# EAGLE library part XC3S1500-FG320 (library xess)
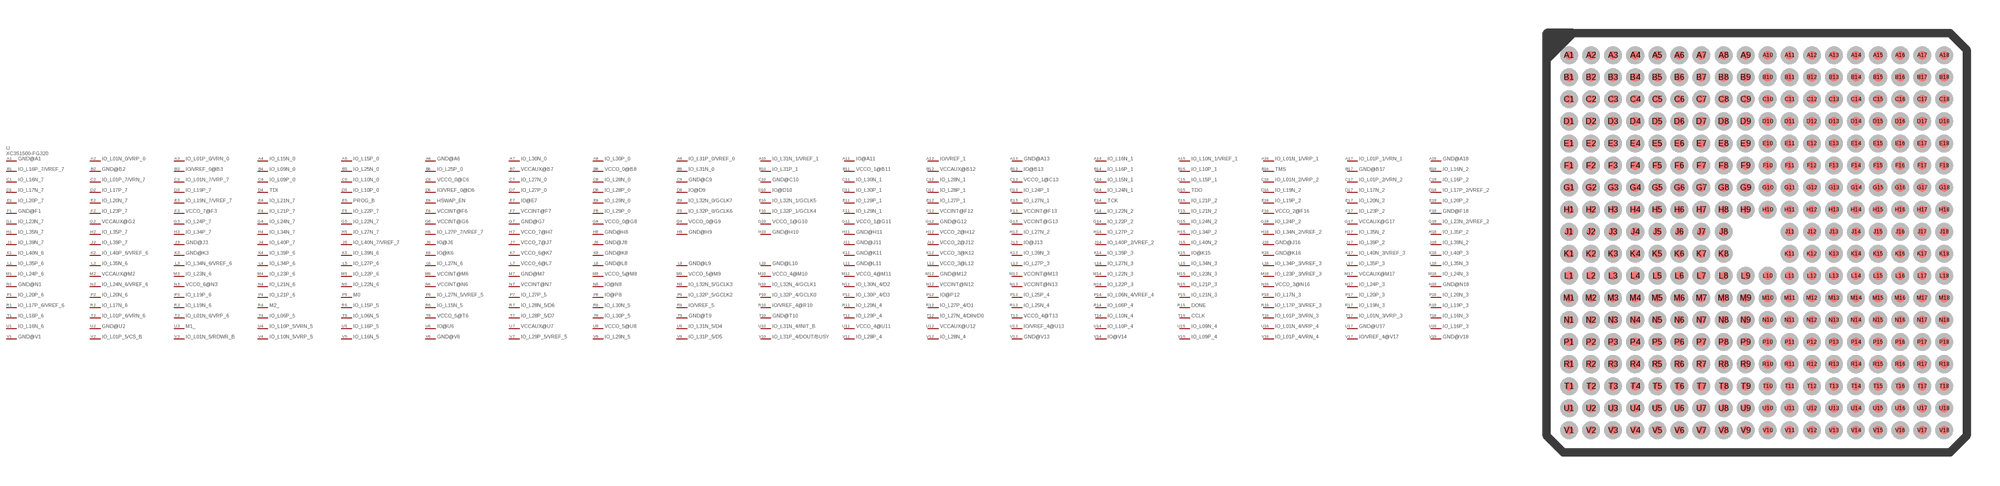
[diagram p100: symbol with the pads of XC3S1500-FG320; footprint XC3S1500-FG320]

Designator prefix U; gates PART_VALUE=PART_VALUE-XC3S1500-FG320 GND@A1=P-XC3S1500-FG320 IO_L01N_0/VRP_0=P-XC3S1500-FG320 IO_L01P_0/VRN_0=P-XC3S1500-FG320 IO_L15N_0=P-XC3S1500-FG320 IO_L15P_0=P-XC3S1500-FG320 GND@A6=P-XC3S1500-FG320 IO_L30N_0=P-XC3S1500-FG320 IO_L30P_0=P-XC3S1500-FG320 IO_L31P_0/VREF_0=P-XC3S1500-FG320 IO_L31N_1/VREF_1=P-XC3S1500-FG320 IO@A11=P-XC3S1500-FG320 IO/VREF_1=P-XC3S1500-FG320 GND@A13=P-XC3S1500-FG320 IO_L16N_1=P-XC3S1500-FG320 IO_L10N_1/VREF_1=P-XC3S1500-FG320 IO_L01N_1/VRP_1=P-XC3S1500-FG320 IO_L01P_1/VRN_1=P-XC3S1500-FG320 GND@A18=P-XC3S1500-FG320 IO_L16P_7/VREF_7=P-XC3S1500-FG320 GND@B2=P-XC3S1500-FG320 IO/VREF_0@B3=P-XC3S1500-FG320 IO_L09N_0=P-XC3S1500-FG320 IO_L25N_0=P-XC3S1500-FG320 IO_L25P_0=P-XC3S1500-FG320 VCCAUX@B7=P-XC3S1500-FG320 VCCO_0@B8=P-XC3S1500-FG320 IO_L31N_0=P-XC3S1500-FG320 IO_L31P_1=P-XC3S1500-FG320 VCCO_1@B11=P-XC3S1500-FG320 VCCAUX@B12=P-XC3S1500-FG320 IO@B13=P-XC3S1500-FG320 IO_L16P_1=P-XC3S1500-FG320 IO_L10P_1=P-XC3S1500-FG320 TMS=P-XC3S1500-FG320 GND@B17=P-XC3S1500-FG320 IO_L16N_2=P-XC3S1500-FG320 IO_L16N_7=P-XC3S1500-FG320 IO_L01P_7/VRN_7=P-XC3S1500-FG320 IO_L01N_7/VRP_7=P-XC3S1500-FG320 IO_L09P_0=P-XC3S1500-FG320 IO_L10N_0=P-XC3S1500-FG320 VCCO_0@C6=P-XC3S1500-FG320 IO_L27N_0=P-XC3S1500-FG320 IO_L28N_0=P-XC3S1500-FG320 GND@C9=P-XC3S1500-FG320 GND@C10=P-XC3S1500-FG320 IO_L30N_1=P-XC3S1500-FG320 IO_L28N_1=P-XC3S1500-FG320 VCCO_1@C13=P-XC3S1500-FG320 IO_L15N_1=P-XC3S1500-FG320 IO_L15P_1=P-XC3S1500-FG320 IO_L01N_2/VRP_2=P-XC3S1500-FG320 IO_L01P_2/VRN_2=P-XC3S1500-FG320 IO_L16P_2=P-XC3S1500-FG320 IO_L17N_7=P-XC3S1500-FG320 IO_L17P_7=P-XC3S1500-FG320 IO_L19P_7=P-XC3S1500-FG320 TDI=P-XC3S1500-FG320 IO_L10P_0=P-XC3S1500-FG320 IO/VREF_0@D6=P-XC3S1500-FG320 IO_L27P_0=P-XC3S1500-FG320 IO_L28P_0=P-XC3S1500-FG320 IO@D9=P-XC3S1500-FG320 IO@D10=P-XC3S1500-FG320 IO_L30P_1=P-XC3S1500-FG320 IO_L28P_1=P-XC3S1500-FG320 IO_L24P_1=P-XC3S1500-FG320 IO_L24N_1=P-XC3S1500-FG320 TDO=P-XC3S1500-FG320 IO_L19N_2=P-XC3S1500-FG320 IO_L17N_2=P-XC3S1500-FG320 IO_L17P_2/VREF_2=P-XC3S1500-FG320 IO_L20P_7=P-XC3S1500-FG320 IO_L20N_7=P-XC3S1500-FG320 IO_L19N_7/VREF_7=P-XC3S1500-FG320 IO_L21N_7=P-XC3S1500-FG320 PROG_B=P-XC3S1500-FG320 HSWAP_EN=P-XC3S1500-FG320 IO@E7=P-XC3S1500-FG320 IO_L29N_0=P-XC3S1500-FG320 IO_L32N_0/GCLK7=P-XC3S1500-FG320 IO_L32N_1/GCLK5=P-XC3S1500-FG320 IO_L29P_1=P-XC3S1500-FG320 IO_L27P_1=P-XC3S1500-FG320 IO_L27N_1=P-XC3S1500-FG320 TCK=P-XC3S1500-FG320 IO_L21P_2=P-XC3S1500-FG320 IO_L19P_2=P-XC3S1500-FG320 IO_L20N_2=P-XC3S1500-FG320 IO_L20P_2=P-XC3S1500-FG320 GND@F1=P-XC3S1500-FG320 IO_L23P_7=P-XC3S1500-FG320 VCCO_7@F3=P-XC3S1500-FG320 IO_L21P_7=P-XC3S1500-FG320 IO_L22P_7=P-XC3S1500-FG320 VCCINT@F6=P-XC3S1500-FG320 VCCINT@F7=P-XC3S1500-FG320 IO_L29P_0=P-XC3S1500-FG320 IO_L32P_0/GCLK6=P-XC3S1500-FG320 IO_L32P_1/GCLK4=P-XC3S1500-FG320 IO_L29N_1=P-XC3S1500-FG320 VCCINT@F12=P-XC3S1500-FG320 VCCINT@F13=P-XC3S1500-FG320 IO_L22N_2=P-XC3S1500-FG320 IO_L21N_2=P-XC3S1500-FG320 VCCO_2@F16=P-XC3S1500-FG320 IO_L23P_2=P-XC3S1500-FG320 GND@F18=P-XC3S1500-FG320 IO_L23N_7=P-XC3S1500-FG320 VCCAUX@G2=P-XC3S1500-FG320 IO_L24P_7=P-XC3S1500-FG320 IO_L24N_7=P-XC3S1500-FG320 IO_L22N_7=P-XC3S1500-FG320 VCCINT@G6=P-XC3S1500-FG320 GND@G7=P-XC3S1500-FG320 VCCO_0@G8=P-XC3S1500-FG320 VCCO_0@G9=P-XC3S1500-FG320 VCCO_1@G10=P-XC3S1500-FG320 VCCO_1@G11=P-XC3S1500-FG320 GND@G12=P-XC3S1500-FG320 VCCINT@G13=P-XC3S1500-FG320 IO_L22P_2=P-XC3S1500-FG320 IO_L24N_2=P-XC3S1500-FG320 IO_L24P_2=P-XC3S1500-FG320 VCCAUX@G17=P-XC3S1500-FG320 IO_L23N_2/VREF_2=P-XC3S1500-FG320 IO_L35N_7=P-XC3S1500-FG320 IO_L35P_7=P-XC3S1500-FG320 IO_L34P_7=P-XC3S1500-FG320 IO_L34N_7=P-XC3S1500-FG320 IO_L27N_7=P-XC3S1500-FG320 IO_L27P_7/VREF_7=P-XC3S1500-FG320 VCCO_7@H7=P-XC3S1500-FG320 GND@H8=P-XC3S1500-FG320 GND@H9=P-XC3S1500-FG320 GND@H10=P-XC3S1500-FG320 GND@H11=P-XC3S1500-FG320 VCCO_2@H12=P-XC3S1500-FG320 IO_L27N_2=P-XC3S1500-FG320 IO_L27P_2=P-XC3S1500-FG320 IO_L34P_2=P-XC3S1500-FG320 IO_L34N_2/VREF_2=P-XC3S1500-FG320 IO_L35N_2=P-XC3S1500-FG320 IO_L35P_2=P-XC3S1500-FG320 IO_L39N_7=P-XC3S1500-FG320 IO_L39P_7=P-XC3S1500-FG320 GND@J3=P-XC3S1500-FG320 IO_L40P_7=P-XC3S1500-FG320 IO_L40N_7/VREF_7=P-XC3S1500-FG320 IO@J6=P-XC3S1500-FG320 VCCO_7@J7=P-XC3S1500-FG320 GND@J8=P-XC3S1500-FG320 GND@J11=P-XC3S1500-FG320 VCCO_2@J12=P-XC3S1500-FG320 IO@J13=P-XC3S1500-FG320 IO_L40P_2/VREF_2=P-XC3S1500-FG320 IO_L40N_2=P-XC3S1500-FG320 GND@J16=P-XC3S1500-FG320 IO_L39P_2=P-XC3S1500-FG320 IO_L39N_2=P-XC3S1500-FG320 IO_L40N_6=P-XC3S1500-FG320 IO_L40P_6/VREF_6=P-XC3S1500-FG320 GND@K3=P-XC3S1500-FG320 IO_L39P_6=P-XC3S1500-FG320 IO_L39N_6=P-XC3S1500-FG320 IO@K6=P-XC3S1500-FG320 VCCO_6@K7=P-XC3S1500-FG320 GND@K8=P-XC3S1500-FG320 GND@K11=P-XC3S1500-FG320 VCCO_3@K12=P-XC3S1500-FG320 IO_L39N_3=P-XC3S1500-FG320 IO_L39P_3=P-XC3S1500-FG320 IO@K15=P-XC3S1500-FG320 GND@K16=P-XC3S1500-FG320 IO_L40N_3/VREF_3=P-XC3S1500-FG320 IO_L40P_3=P-XC3S1500-FG320 IO_L35P_6=P-XC3S1500-FG320 IO_L35N_6=P-XC3S1500-FG320 IO_L34N_6/VREF_6=P-XC3S1500-FG320 IO_L34P_6=P-XC3S1500-FG320 IO_L27P_6=P-XC3S1500-FG320 IO_L27N_6=P-XC3S1500-FG320 VCCO_6@L7=P-XC3S1500-FG320 GND@L8=P-XC3S1500-FG320 GND@L9=P-XC3S1500-FG320 GND@L10=P-XC3S1500-FG320 GND@L11=P-XC3S1500-FG320 VCCO_3@L12=P-XC3S1500-FG320 IO_L27P_3=P-XC3S1500-FG320 IO_L27N_3=P-XC3S1500-FG320 IO_L34N_3=P-XC3S1500-FG320 IO_L34P_3/VREF_3=P-XC3S1500-FG320 IO_L35P_3=P-XC3S1500-FG320 IO_L35N_3=P-XC3S1500-FG320 IO_L24P_6=P-XC3S1500-FG320 VCCAUX@M2=P-XC3S1500-FG320 IO_L23N_6=P-XC3S1500-FG320 IO_L23P_6=P-XC3S1500-FG320 IO_L22P_6=P-XC3S1500-FG320 VCCINT@M6=P-XC3S1500-FG320 GND@M7=P-XC3S1500-FG320 VCCO_5@M8=P-XC3S1500-FG320 VCCO_5@M9=P-XC3S1500-FG320 VCCO_4@M10=P-XC3S1500-FG320 VCCO_4@M11=P-XC3S1500-FG320 GND@M12=P-XC3S1500-FG320 VCCINT@M13=P-XC3S1500-FG320 IO_L22N_3=P-XC3S1500-FG320 IO_L23N_3=P-XC3S1500-FG320 IO_L23P_3/VREF_3=P-XC3S1500-FG320 VCCAUX@M17=P-XC3S1500-FG320 IO_L24N_3=P-XC3S1500-FG320 GND@N1=P-XC3S1500-FG320 IO_L24N_6/VREF_6=P-XC3S1500-FG320 VCCO_6@N3=P-XC3S1500-FG320 IO_L21N_6=P-XC3S1500-FG320 IO_L22N_6=P-XC3S1500-FG320 VCCINT@N6=P-XC3S1500-FG320 VCCINT@N7=P-XC3S1500-FG320 IO@N8=P-XC3S1500-FG320 IO_L32N_5/GCLK3=P-XC3S1500-FG320 IO_L32N_4/GCLK1=P-XC3S1500-FG320 IO_L30N_4/D2=P-XC3S1500-FG320 VCCINT@N12=P-XC3S1500-FG320 VCCINT@N13=P-XC3S1500-FG320 IO_L22P_3=P-XC3S1500-FG320 IO_L21P_3=P-XC3S1500-FG320 VCCO_3@N16=P-XC3S1500-FG320 IO_L24P_3=P-XC3S1500-FG320 GND@N18=P-XC3S1500-FG320 IO_L20P_6=P-XC3S1500-FG320 IO_L20N_6=P-XC3S1500-FG320 IO_L19P_6=P-XC3S1500-FG320 IO_L21P_6=P-XC3S1500-FG320 M0=P-XC3S1500-FG320 IO_L27N_5/VREF_5=P-XC3S1500-FG320 IO_L27P_5=P-XC3S1500-FG320 IO@P8=P-XC3S1500-FG320 IO_L32P_5/GCLK2=P-XC3S1500-FG320 IO_L32P_4/GCLK0=P-XC3S1500-FG320 IO_L30P_4/D3=P-XC3S1500-FG320 IO@P12=P-XC3S1500-FG320 IO_L25P_4=P-XC3S1500-FG320 IO_L06N_4/VREF_4=P-XC3S1500-FG320 IO_L21N_3=P-XC3S1500-FG320 IO_L17N_3=P-XC3S1500-FG320 IO_L20P_3=P-XC3S1500-FG320 IO_L20N_3=P-XC3S1500-FG320 IO_L17P_6/VREF_6=P-XC3S1500-FG320 IO_L17N_6=P-XC3S1500-FG320 IO_L19N_6=P-XC3S1500-FG320 M2_=P-XC3S1500-FG320 IO_L15P_5=P-XC3S1500-FG320 IO_L15N_5=P-XC3S1500-FG320 IO_L28N_5/D6=P-XC3S1500-FG320 IO_L30N_5=P-XC3S1500-FG320 IO/VREF_5=P-XC3S1500-FG320 IO/VREF_4@R10=P-XC3S1500-FG320 IO_L29N_4=P-XC3S1500-FG320 IO_L27P_4/D1=P-XC3S1500-FG320 IO_L25N_4=P-XC3S1500-FG320 IO_L06P_4=P-XC3S1500-FG320 DONE=P-XC3S1500-FG320 IO_L17P_3/VREF_3=P-XC3S1500-FG320 IO_L19N_3=P-XC3S1500-FG320 IO_L19P_3=P-XC3S1500-FG320 IO_L16P_6=P-XC3S1500-FG320 IO_L01P_6/VRN_6=P-XC3S1500-FG320 IO_L01N_6/VRP_6=P-XC3S1500-FG320 IO_L06P_5=P-XC3S1500-FG320 IO_L06N_5=P-XC3S1500-FG320 VCCO_5@T6=P-XC3S1500-FG320 IO_L28P_5/D7=P-XC3S1500-FG320 IO_L30P_5=P-XC3S1500-FG320 GND@T9=P-XC3S1500-FG320 GND@T10=P-XC3S1500-FG320 IO_L29P_4=P-XC3S1500-FG320 IO_L27N_4/DIN/D0=P-XC3S1500-FG320 VCCO_4@T13=P-XC3S1500-FG320 IO_L10N_4=P-XC3S1500-FG320 CCLK=P-XC3S1500-FG320 IO_L01P_3/VRN_3=P-XC3S1500-FG320 IO_L01N_3/VRP_3=P-XC3S1500-FG320 IO_L16N_3=P-XC3S1500-FG320 IO_L16N_6=P-XC3S1500-FG320 GND@U2=P-XC3S1500-FG320 M1_=P-XC3S1500-FG320 IO_L10P_5/VRN_5=P-XC3S1500-FG320 IO_L16P_5=P-XC3S1500-FG320 IO@U6=P-XC3S1500-FG320 VCCAUX@U7=P-XC3S1500-FG320 VCCO_5@U8=P-XC3S1500-FG320 IO_L31N_5/D4=P-XC3S1500-FG320 IO_L31N_4/INIT_B=P-XC3S1500-FG320 VCCO_4@U11=P-XC3S1500-FG320 VCCAUX@U12=P-XC3S1500-FG320 IO/VREF_4@U13=P-XC3S1500-FG320 IO_L10P_4=P-XC3S1500-FG320 IO_L09N_4=P-XC3S1500-FG320 IO_L01N_4/VRP_4=P-XC3S1500-FG320 GND@U17=P-XC3S1500-FG320 IO_L16P_3=P-XC3S1500-FG320 GND@V1=P-XC3S1500-FG320 IO_L01P_5/CS_B=P-XC3S1500-FG320 IO_L01N_5/RDWR_B=P-XC3S1500-FG320 IO_L10N_5/VRP_5=P-XC3S1500-FG320 IO_L16N_5=P-XC3S1500-FG320 GND@V6=P-XC3S1500-FG320 IO_L29P_5/VREF_5=P-XC3S1500-FG320 IO_L29N_5=P-XC3S1500-FG320 IO_L31P_5/D5=P-XC3S1500-FG320 IO_L31P_4/DOUT/BUSY=P-XC3S1500-FG320 IO_L28P_4=P-XC3S1500-FG320 IO_L28N_4=P-XC3S1500-FG320 GND@V13=P-XC3S1500-FG320 IO@V14=P-XC3S1500-FG320 IO_L09P_4=P-XC3S1500-FG320 IO_L01P_4/VRN_4=P-XC3S1500-FG320 IO/VREF_4@V17=P-XC3S1500-FG320 GND@V18=P-XC3S1500-FG320

## XC3S1500-FG320  [XC3S1500-FG320]
A1  GND@A1:P$1
A2  IO_L01N_0/VRP_0:P$1
A3  IO_L01P_0/VRN_0:P$1
A4  IO_L15N_0:P$1
A5  IO_L15P_0:P$1
A6  GND@A6:P$1
A7  IO_L30N_0:P$1
A8  IO_L30P_0:P$1
A9  IO_L31P_0/VREF_0:P$1
A10  IO_L31N_1/VREF_1:P$1
A11  IO@A11:P$1
A12  IO/VREF_1:P$1
A13  GND@A13:P$1
A14  IO_L16N_1:P$1
A15  IO_L10N_1/VREF_1:P$1
A16  IO_L01N_1/VRP_1:P$1
A17  IO_L01P_1/VRN_1:P$1
A18  GND@A18:P$1
B1  IO_L16P_7/VREF_7:P$1
B2  GND@B2:P$1
B3  IO/VREF_0@B3:P$1
B4  IO_L09N_0:P$1
B5  IO_L25N_0:P$1
B6  IO_L25P_0:P$1
B7  VCCAUX@B7:P$1
B8  VCCO_0@B8:P$1
B9  IO_L31N_0:P$1
B10  IO_L31P_1:P$1
B11  VCCO_1@B11:P$1
B12  VCCAUX@B12:P$1
B13  IO@B13:P$1
B14  IO_L16P_1:P$1
B15  IO_L10P_1:P$1
B16  TMS:P$1
B17  GND@B17:P$1
B18  IO_L16N_2:P$1
C1  IO_L16N_7:P$1
C2  IO_L01P_7/VRN_7:P$1
C3  IO_L01N_7/VRP_7:P$1
C4  IO_L09P_0:P$1
C5  IO_L10N_0:P$1
C6  VCCO_0@C6:P$1
C7  IO_L27N_0:P$1
C8  IO_L28N_0:P$1
C9  GND@C9:P$1
C10  GND@C10:P$1
C11  IO_L30N_1:P$1
C12  IO_L28N_1:P$1
C13  VCCO_1@C13:P$1
C14  IO_L15N_1:P$1
C15  IO_L15P_1:P$1
C16  IO_L01N_2/VRP_2:P$1
C17  IO_L01P_2/VRN_2:P$1
C18  IO_L16P_2:P$1
D1  IO_L17N_7:P$1
D2  IO_L17P_7:P$1
D3  IO_L19P_7:P$1
D4  TDI:P$1
D5  IO_L10P_0:P$1
D6  IO/VREF_0@D6:P$1
D7  IO_L27P_0:P$1
D8  IO_L28P_0:P$1
D9  IO@D9:P$1
D10  IO@D10:P$1
D11  IO_L30P_1:P$1
D12  IO_L28P_1:P$1
D13  IO_L24P_1:P$1
D14  IO_L24N_1:P$1
D15  TDO:P$1
D16  IO_L19N_2:P$1
D17  IO_L17N_2:P$1
D18  IO_L17P_2/VREF_2:P$1
E1  IO_L20P_7:P$1
E2  IO_L20N_7:P$1
E3  IO_L19N_7/VREF_7:P$1
E4  IO_L21N_7:P$1
E5  PROG_B:P$1
E6  HSWAP_EN:P$1
E7  IO@E7:P$1
E8  IO_L29N_0:P$1
E9  IO_L32N_0/GCLK7:P$1
E10  IO_L32N_1/GCLK5:P$1
E11  IO_L29P_1:P$1
E12  IO_L27P_1:P$1
E13  IO_L27N_1:P$1
E14  TCK:P$1
E15  IO_L21P_2:P$1
E16  IO_L19P_2:P$1
E17  IO_L20N_2:P$1
E18  IO_L20P_2:P$1
F1  GND@F1:P$1
F2  IO_L23P_7:P$1
F3  VCCO_7@F3:P$1
F4  IO_L21P_7:P$1
F5  IO_L22P_7:P$1
F6  VCCINT@F6:P$1
F7  VCCINT@F7:P$1
F8  IO_L29P_0:P$1
F9  IO_L32P_0/GCLK6:P$1
F10  IO_L32P_1/GCLK4:P$1
F11  IO_L29N_1:P$1
F12  VCCINT@F12:P$1
F13  VCCINT@F13:P$1
F14  IO_L22N_2:P$1
F15  IO_L21N_2:P$1
F16  VCCO_2@F16:P$1
F17  IO_L23P_2:P$1
F18  GND@F18:P$1
G1  IO_L23N_7:P$1
G2  VCCAUX@G2:P$1
G3  IO_L24P_7:P$1
G4  IO_L24N_7:P$1
G5  IO_L22N_7:P$1
G6  VCCINT@G6:P$1
G7  GND@G7:P$1
G8  VCCO_0@G8:P$1
G9  VCCO_0@G9:P$1
G10  VCCO_1@G10:P$1
G11  VCCO_1@G11:P$1
G12  GND@G12:P$1
G13  VCCINT@G13:P$1
G14  IO_L22P_2:P$1
G15  IO_L24N_2:P$1
G16  IO_L24P_2:P$1
G17  VCCAUX@G17:P$1
G18  IO_L23N_2/VREF_2:P$1
H1  IO_L35N_7:P$1
H2  IO_L35P_7:P$1
H3  IO_L34P_7:P$1
H4  IO_L34N_7:P$1
H5  IO_L27N_7:P$1
H6  IO_L27P_7/VREF_7:P$1
H7  VCCO_7@H7:P$1
H8  GND@H8:P$1
H9  GND@H9:P$1
H10  GND@H10:P$1
H11  GND@H11:P$1
H12  VCCO_2@H12:P$1
H13  IO_L27N_2:P$1
H14  IO_L27P_2:P$1
H15  IO_L34P_2:P$1
H16  IO_L34N_2/VREF_2:P$1
H17  IO_L35N_2:P$1
H18  IO_L35P_2:P$1
J1  IO_L39N_7:P$1
J2  IO_L39P_7:P$1
J3  GND@J3:P$1
J4  IO_L40P_7:P$1
J5  IO_L40N_7/VREF_7:P$1
J6  IO@J6:P$1
J7  VCCO_7@J7:P$1
J8  GND@J8:P$1
J11  GND@J11:P$1
J12  VCCO_2@J12:P$1
J13  IO@J13:P$1
J14  IO_L40P_2/VREF_2:P$1
J15  IO_L40N_2:P$1
J16  GND@J16:P$1
J17  IO_L39P_2:P$1
J18  IO_L39N_2:P$1
K1  IO_L40N_6:P$1
K2  IO_L40P_6/VREF_6:P$1
K3  GND@K3:P$1
K4  IO_L39P_6:P$1
K5  IO_L39N_6:P$1
K6  IO@K6:P$1
K7  VCCO_6@K7:P$1
K8  GND@K8:P$1
K11  GND@K11:P$1
K12  VCCO_3@K12:P$1
K13  IO_L39N_3:P$1
K14  IO_L39P_3:P$1
K15  IO@K15:P$1
K16  GND@K16:P$1
K17  IO_L40N_3/VREF_3:P$1
K18  IO_L40P_3:P$1
L1  IO_L35P_6:P$1
L2  IO_L35N_6:P$1
L3  IO_L34N_6/VREF_6:P$1
L4  IO_L34P_6:P$1
L5  IO_L27P_6:P$1
L6  IO_L27N_6:P$1
L7  VCCO_6@L7:P$1
L8  GND@L8:P$1
L9  GND@L9:P$1
L10  GND@L10:P$1
L11  GND@L11:P$1
L12  VCCO_3@L12:P$1
L13  IO_L27P_3:P$1
L14  IO_L27N_3:P$1
L15  IO_L34N_3:P$1
L16  IO_L34P_3/VREF_3:P$1
L17  IO_L35P_3:P$1
L18  IO_L35N_3:P$1
M1  IO_L24P_6:P$1
M2  VCCAUX@M2:P$1
M3  IO_L23N_6:P$1
M4  IO_L23P_6:P$1
M5  IO_L22P_6:P$1
M6  VCCINT@M6:P$1
M7  GND@M7:P$1
M8  VCCO_5@M8:P$1
M9  VCCO_5@M9:P$1
M10  VCCO_4@M10:P$1
M11  VCCO_4@M11:P$1
M12  GND@M12:P$1
M13  VCCINT@M13:P$1
M14  IO_L22N_3:P$1
M15  IO_L23N_3:P$1
M16  IO_L23P_3/VREF_3:P$1
M17  VCCAUX@M17:P$1
M18  IO_L24N_3:P$1
N1  GND@N1:P$1
N2  IO_L24N_6/VREF_6:P$1
N3  VCCO_6@N3:P$1
N4  IO_L21N_6:P$1
N5  IO_L22N_6:P$1
N6  VCCINT@N6:P$1
N7  VCCINT@N7:P$1
N8  IO@N8:P$1
N9  IO_L32N_5/GCLK3:P$1
N10  IO_L32N_4/GCLK1:P$1
N11  IO_L30N_4/D2:P$1
N12  VCCINT@N12:P$1
N13  VCCINT@N13:P$1
N14  IO_L22P_3:P$1
N15  IO_L21P_3:P$1
N16  VCCO_3@N16:P$1
N17  IO_L24P_3:P$1
N18  GND@N18:P$1
P1  IO_L20P_6:P$1
P2  IO_L20N_6:P$1
P3  IO_L19P_6:P$1
P4  IO_L21P_6:P$1
P5  M0:P$1
P6  IO_L27N_5/VREF_5:P$1
P7  IO_L27P_5:P$1
P8  IO@P8:P$1
P9  IO_L32P_5/GCLK2:P$1
P10  IO_L32P_4/GCLK0:P$1
P11  IO_L30P_4/D3:P$1
P12  IO@P12:P$1
P13  IO_L25P_4:P$1
P14  IO_L06N_4/VREF_4:P$1
P15  IO_L21N_3:P$1
P16  IO_L17N_3:P$1
P17  IO_L20P_3:P$1
P18  IO_L20N_3:P$1
R1  IO_L17P_6/VREF_6:P$1
R2  IO_L17N_6:P$1
R3  IO_L19N_6:P$1
R4  M2_:P$1
R5  IO_L15P_5:P$1
R6  IO_L15N_5:P$1
R7  IO_L28N_5/D6:P$1
R8  IO_L30N_5:P$1
R9  IO/VREF_5:P$1
R10  IO/VREF_4@R10:P$1
R11  IO_L29N_4:P$1
R12  IO_L27P_4/D1:P$1
R13  IO_L25N_4:P$1
R14  IO_L06P_4:P$1
R15  DONE:P$1
R16  IO_L17P_3/VREF_3:P$1
R17  IO_L19N_3:P$1
R18  IO_L19P_3:P$1
T1  IO_L16P_6:P$1
T2  IO_L01P_6/VRN_6:P$1
T3  IO_L01N_6/VRP_6:P$1
T4  IO_L06P_5:P$1
T5  IO_L06N_5:P$1
T6  VCCO_5@T6:P$1
T7  IO_L28P_5/D7:P$1
T8  IO_L30P_5:P$1
T9  GND@T9:P$1
T10  GND@T10:P$1
T11  IO_L29P_4:P$1
T12  IO_L27N_4/DIN/D0:P$1
T13  VCCO_4@T13:P$1
T14  IO_L10N_4:P$1
T15  CCLK:P$1
T16  IO_L01P_3/VRN_3:P$1
T17  IO_L01N_3/VRP_3:P$1
T18  IO_L16N_3:P$1
U1  IO_L16N_6:P$1
U2  GND@U2:P$1
U3  M1_:P$1
U4  IO_L10P_5/VRN_5:P$1
U5  IO_L16P_5:P$1
U6  IO@U6:P$1
U7  VCCAUX@U7:P$1
U8  VCCO_5@U8:P$1
U9  IO_L31N_5/D4:P$1
U10  IO_L31N_4/INIT_B:P$1
U11  VCCO_4@U11:P$1
U12  VCCAUX@U12:P$1
U13  IO/VREF_4@U13:P$1
U14  IO_L10P_4:P$1
U15  IO_L09N_4:P$1
U16  IO_L01N_4/VRP_4:P$1
U17  GND@U17:P$1
U18  IO_L16P_3:P$1
V1  GND@V1:P$1
V2  IO_L01P_5/CS_B:P$1
V3  IO_L01N_5/RDWR_B:P$1
V4  IO_L10N_5/VRP_5:P$1
V5  IO_L16N_5:P$1
V6  GND@V6:P$1
V7  IO_L29P_5/VREF_5:P$1
V8  IO_L29N_5:P$1
V9  IO_L31P_5/D5:P$1
V10  IO_L31P_4/DOUT/BUSY:P$1
V11  IO_L28P_4:P$1
V12  IO_L28N_4:P$1
V13  GND@V13:P$1
V14  IO@V14:P$1
V15  IO_L09P_4:P$1
V16  IO_L01P_4/VRN_4:P$1
V17  IO/VREF_4@V17:P$1
V18  GND@V18:P$1

## Footprint XC3S1500-FG320 (pad centres in mm)
smd 0.4 x 0.4: A1 0,0; A2 1,0; A3 2,0; A4 3,0; A5 4,0; A6 5,0; A7 6,0; A8 7,0; A9 8,0; A10 9,0; A11 10,0; A12 11,0; A13 12,0; A14 13,0; A15 14,0; A16 15,0; A17 16,0; A18 17,0; B1 0,-1; B2 1,-1; B3 2,-1; B4 3,-1; B5 4,-1; B6 5,-1; B7 6,-1; B8 7,-1; B9 8,-1; B10 9,-1; B11 10,-1; B12 11,-1; B13 12,-1; B14 13,-1; B15 14,-1; B16 15,-1; B17 16,-1; B18 17,-1; C1 0,-2; C2 1,-2; C3 2,-2; C4 3,-2; C5 4,-2; C6 5,-2; C7 6,-2; C8 7,-2; C9 8,-2; C10 9,-2; C11 10,-2; C12 11,-2; C13 12,-2; C14 13,-2; C15 14,-2; C16 15,-2; C17 16,-2; C18 17,-2; D1 0,-3; D2 1,-3; D3 2,-3; D4 3,-3; D5 4,-3; D6 5,-3; D7 6,-3; D8 7,-3; D9 8,-3; D10 9,-3; D11 10,-3; D12 11,-3; D13 12,-3; D14 13,-3; D15 14,-3; D16 15,-3; D17 16,-3; D18 17,-3; E1 0,-4; E2 1,-4; E3 2,-4; E4 3,-4; E5 4,-4; E6 5,-4; E7 6,-4; E8 7,-4; E9 8,-4; E10 9,-4; E11 10,-4; E12 11,-4; E13 12,-4; E14 13,-4; E15 14,-4; E16 15,-4; E17 16,-4; E18 17,-4; F1 0,-5; F2 1,-5; F3 2,-5; F4 3,-5; F5 4,-5; F6 5,-5; F7 6,-5; F8 7,-5; F9 8,-5; F10 9,-5; F11 10,-5; F12 11,-5; F13 12,-5; F14 13,-5; F15 14,-5; F16 15,-5; F17 16,-5; F18 17,-5; G1 0,-6; G2 1,-6; G3 2,-6; G4 3,-6; G5 4,-6; G6 5,-6; G7 6,-6; G8 7,-6; G9 8,-6; G10 9,-6; G11 10,-6; G12 11,-6; G13 12,-6; G14 13,-6; G15 14,-6; G16 15,-6; G17 16,-6; G18 17,-6; H1 0,-7; H2 1,-7; H3 2,-7; H4 3,-7; H5 4,-7; H6 5,-7; H7 6,-7; H8 7,-7; H9 8,-7; H10 9,-7; H11 10,-7; H12 11,-7; H13 12,-7; H14 13,-7; H15 14,-7; H16 15,-7; H17 16,-7; H18 17,-7; J1 0,-8; J2 1,-8; J3 2,-8; J4 3,-8; J5 4,-8; J6 5,-8; J7 6,-8; J8 7,-8; J11 10,-8; J12 11,-8; J13 12,-8; J14 13,-8; J15 14,-8; J16 15,-8; J17 16,-8; J18 17,-8; K1 0,-9; K2 1,-9; K3 2,-9; K4 3,-9; K5 4,-9; K6 5,-9; K7 6,-9; K8 7,-9; K11 10,-9; K12 11,-9; K13 12,-9; K14 13,-9; K15 14,-9; K16 15,-9; K17 16,-9; K18 17,-9; L1 0,-10; L2 1,-10; L3 2,-10; L4 3,-10; L5 4,-10; L6 5,-10; L7 6,-10; L8 7,-10; L9 8,-10; L10 9,-10; L11 10,-10; L12 11,-10; L13 12,-10; L14 13,-10; L15 14,-10; L16 15,-10; L17 16,-10; L18 17,-10; M1 0,-11; M2 1,-11; M3 2,-11; M4 3,-11; M5 4,-11; M6 5,-11; M7 6,-11; M8 7,-11; M9 8,-11; M10 9,-11; M11 10,-11; M12 11,-11; M13 12,-11; M14 13,-11; M15 14,-11; M16 15,-11; M17 16,-11; M18 17,-11; N1 0,-12; N2 1,-12; N3 2,-12; N4 3,-12; N5 4,-12; N6 5,-12; N7 6,-12; N8 7,-12; N9 8,-12; N10 9,-12; N11 10,-12; N12 11,-12; N13 12,-12; N14 13,-12; N15 14,-12; N16 15,-12; N17 16,-12; N18 17,-12; P1 0,-13; P2 1,-13; P3 2,-13; P4 3,-13; P5 4,-13; P6 5,-13; P7 6,-13; P8 7,-13; P9 8,-13; P10 9,-13; P11 10,-13; P12 11,-13; P13 12,-13; P14 13,-13; P15 14,-13; P16 15,-13; P17 16,-13; P18 17,-13; R1 0,-14; R2 1,-14; R3 2,-14; R4 3,-14; R5 4,-14; R6 5,-14; R7 6,-14; R8 7,-14; R9 8,-14; R10 9,-14; R11 10,-14; R12 11,-14; R13 12,-14; R14 13,-14; R15 14,-14; R16 15,-14; R17 16,-14; R18 17,-14; T1 0,-15; T2 1,-15; T3 2,-15; T4 3,-15; T5 4,-15; T6 5,-15; T7 6,-15; T8 7,-15; T9 8,-15; T10 9,-15; T11 10,-15; T12 11,-15; T13 12,-15; T14 13,-15; T15 14,-15; T16 15,-15; T17 16,-15; T18 17,-15; U1 0,-16; U2 1,-16; U3 2,-16; U4 3,-16; U5 4,-16; U6 5,-16; U7 6,-16; U8 7,-16; U9 8,-16; U10 9,-16; U11 10,-16; U12 11,-16; U13 12,-16; U14 13,-16; U15 14,-16; U16 15,-16; U17 16,-16; U18 17,-16; V1 0,-17; V2 1,-17; V3 2,-17; V4 3,-17; V5 4,-17; V6 5,-17; V7 6,-17; V8 7,-17; V9 8,-17; V10 9,-17; V11 10,-17; V12 11,-17; V13 12,-17; V14 13,-17; V15 14,-17; V16 15,-17; V17 16,-17; V18 17,-17